# EAGLE library part CDCE925 (library My_TI)
CDCE925 PROGRAMMABLE 2-PLL VCXO CLOCK SYNTHESIZER WITH 1.8-V, 2.5-V and 3.3-V LVCMOS OUTPUTS • 1.8-V Device Power Supply • Separate Output Supply Pins – CDCE925: 3.3 V and 2.5 V – CDCEL925: 1.8 V Datasheet <http://www.ti.com/lit/ds/symlink/cdce925.pdf>
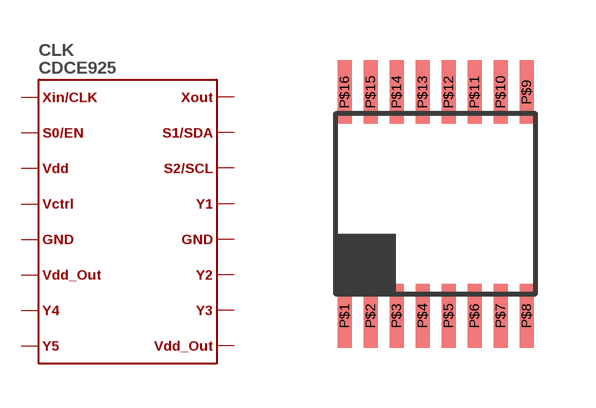
[diagram p66: symbol with the pads of TSSOP-16; footprint TSSOP-16]

Designator prefix CLK

## CDCE925  [TSSOP-16]
P$1  P$1
P$2  P$2
P$3  P$3
P$4  P$4
P$5  P$5
P$6  P$6
P$7  P$7
P$8  P$8
P$9  P$9
P$10  P$10
P$11  P$11
P$12  P$12
P$13  P$13
P$14  P$14
P$15  P$15
P$16  P$16

## Footprint TSSOP-16 (pad centres in mm)
smd 0.35 x 1.6: P$1 -2.275,-2.8; P$2 -1.625,-2.8; P$3 -0.975,-2.8; P$4 -0.325,-2.8; P$5 0.325,-2.8; P$6 0.975,-2.8; P$7 1.625,-2.8; P$8 2.275,-2.8; P$9 2.275,2.8; P$10 1.625,2.8; P$11 0.975,2.8; P$12 0.325,2.8; P$13 -0.325,2.8; P$14 -0.975,2.8; P$15 -1.625,2.8; P$16 -2.275,2.8